# Altium footprint library Ferrites.PcbLib: 33 footprints (part 3 of 3)
Each footprint in its own frame and in the unit in brackets; x right, y up, seen from the top. Pads: shape width x height; smd on the part's side, far side on the other; paste and mask are expansions set on the pad; w line width, h text height; cw(c..) or ccw(c..) is an arc to the next point about the centre after c.
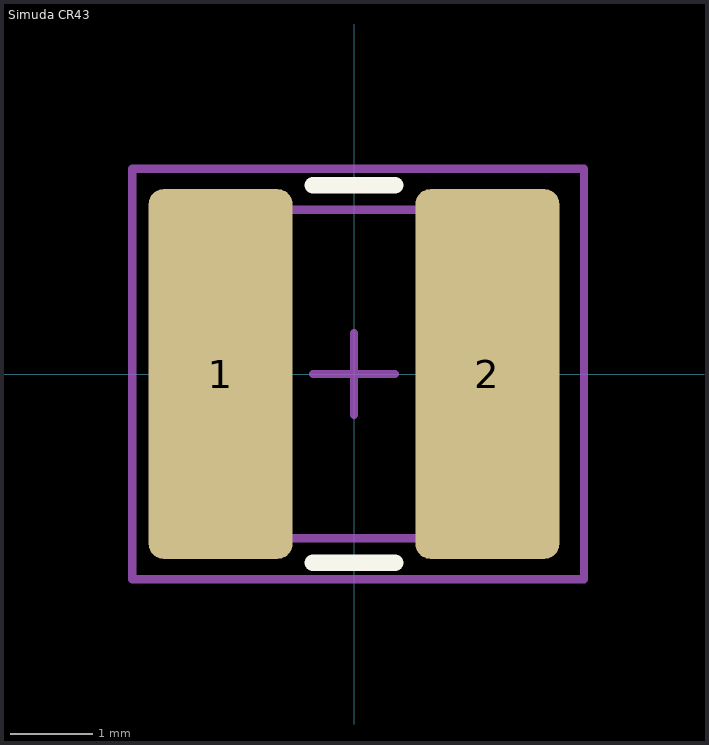
[diagram p2: the footprint, top view; thin cyan lines are the x and y axes]

## Simuda CR43 [mm]
pads (2):
  rrect20% 1.75x4.5 smd: 1(-1.625,0) 2(1.625,0)
Top Overlay:
  lines w0.2: -0.5,-2.3 0.5,-2.3 ; -0.5,2.3 0.5,2.3
Mechanical 1:
  lines w0.1: -2.25,-2 2.25,-2 2.25,2 -2.25,2 -2.25,-2
Mechanical 15:
  lines w0.1: -0.5,0 0.5,0 ; 0,-0.5 0,0.5 ; -2.7,-2.5 2.8,-2.5 2.8,2.5 -2.7,2.5 -2.7,-2.5
3D body "L_Simuda_CR43.STEP": height 3.2, standoff 0, extent -2.25,-2 2.25,2